# EAGLE library part FEATHER (library 629)
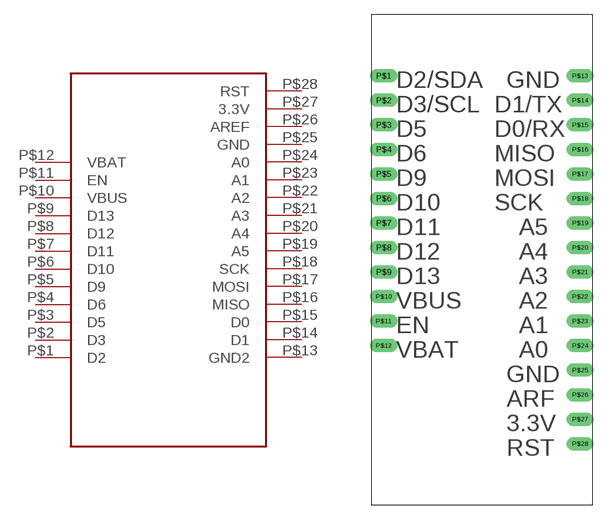
[diagram p2: symbol with the pads of FEATHER; footprint FEATHER]

Designator prefix -

## FEATHER  [FEATHER]
P$1  D2
P$2  D3
P$3  D5
P$4  D6
P$5  D9
P$6  D10
P$7  D11
P$8  D12
P$9  D13
P$10  VBUS
P$11  EN
P$12  VBAT
P$13  GND2
P$14  D1
P$15  D0
P$16  MISO
P$17  MOSI
P$18  SCK
P$19  A5
P$20  A4
P$21  A3
P$22  A2
P$23  A1
P$24  A0
P$25  GND
P$26  AREF
P$27  3.3V
P$28  RST

## Footprint FEATHER (pad centres in mm)
drill 0.9 pad 1.143 long: P$1 0,-5.08; P$2 0,-7.62; P$3 0,-10.16; P$4 0,-12.7; P$5 0,-15.24; P$6 0,-17.78; P$7 0,-20.32; P$8 0,-22.86; P$9 0,-25.4; P$10 0,-27.94; P$11 0,-30.48; P$12 0,-33.02; P$13 20.32,-5.08; P$14 20.32,-7.62; P$15 20.32,-10.16; P$16 20.32,-12.7; P$17 20.32,-15.24; P$18 20.32,-17.78; P$19 20.32,-20.32; P$20 20.32,-22.86; P$21 20.32,-25.4; P$22 20.32,-27.94; P$23 20.32,-30.48; P$24 20.32,-33.02; P$25 20.32,-35.56; P$26 20.32,-38.1; P$27 20.32,-40.64; P$28 20.32,-43.18